# EAGLE library part BMA400 (library BGM220S)
Ultra low power, 12-bit digital triaxial accelerometer
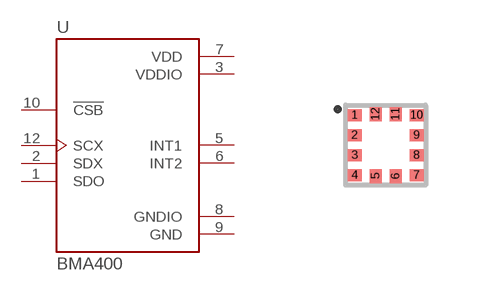
[diagram p1: symbol with the pads of BMA490L; footprint BMA490L]

Designator prefix U

## BMA400 (AVAILABILITY: Unavailable; DESCRIPTION: Accelerometer X, Y, Z Axis ±2g, 4g, 8g, 16g 12-LGA (2x2); MF: Bosch Sensortec; MP: BMA400; PACKAGE: LGA-12 Bosch Tools; PRICE: None)  [BMA490L]
1  SDO
2  SDX
3  VDDIO  pwr
5  INT1
6  INT2
7  VDD  pwr
8  GNDIO  pwr
9  GND  pwr
10  !CSB  in
12  SCX  in

## Footprint BMA490L (pad centres in mm)
smd 0.35 x 0.3: 1 -0.775,0.75; 2 -0.775,0.25; 3 -0.775,-0.25; 4 -0.775,-0.75; 7 0.775,-0.75; 8 0.775,-0.25; 9 0.775,0.25; 10 0.775,0.75
smd 0.3 x 0.35: 5 -0.25,-0.775; 6 0.25,-0.775; 11 0.25,0.775; 12 -0.25,0.775